# Altium footprint library PCB_USB_Connector.PcbLib: 13 footprints
Each footprint in its own frame and in the unit in brackets; x right, y up, seen from the top. Pads: shape width x height; smd on the part's side, far side on the other; paste and mask are expansions set on the pad; w line width, h text height; cw(c..) or ccw(c..) is an arc to the next point about the centre after c.
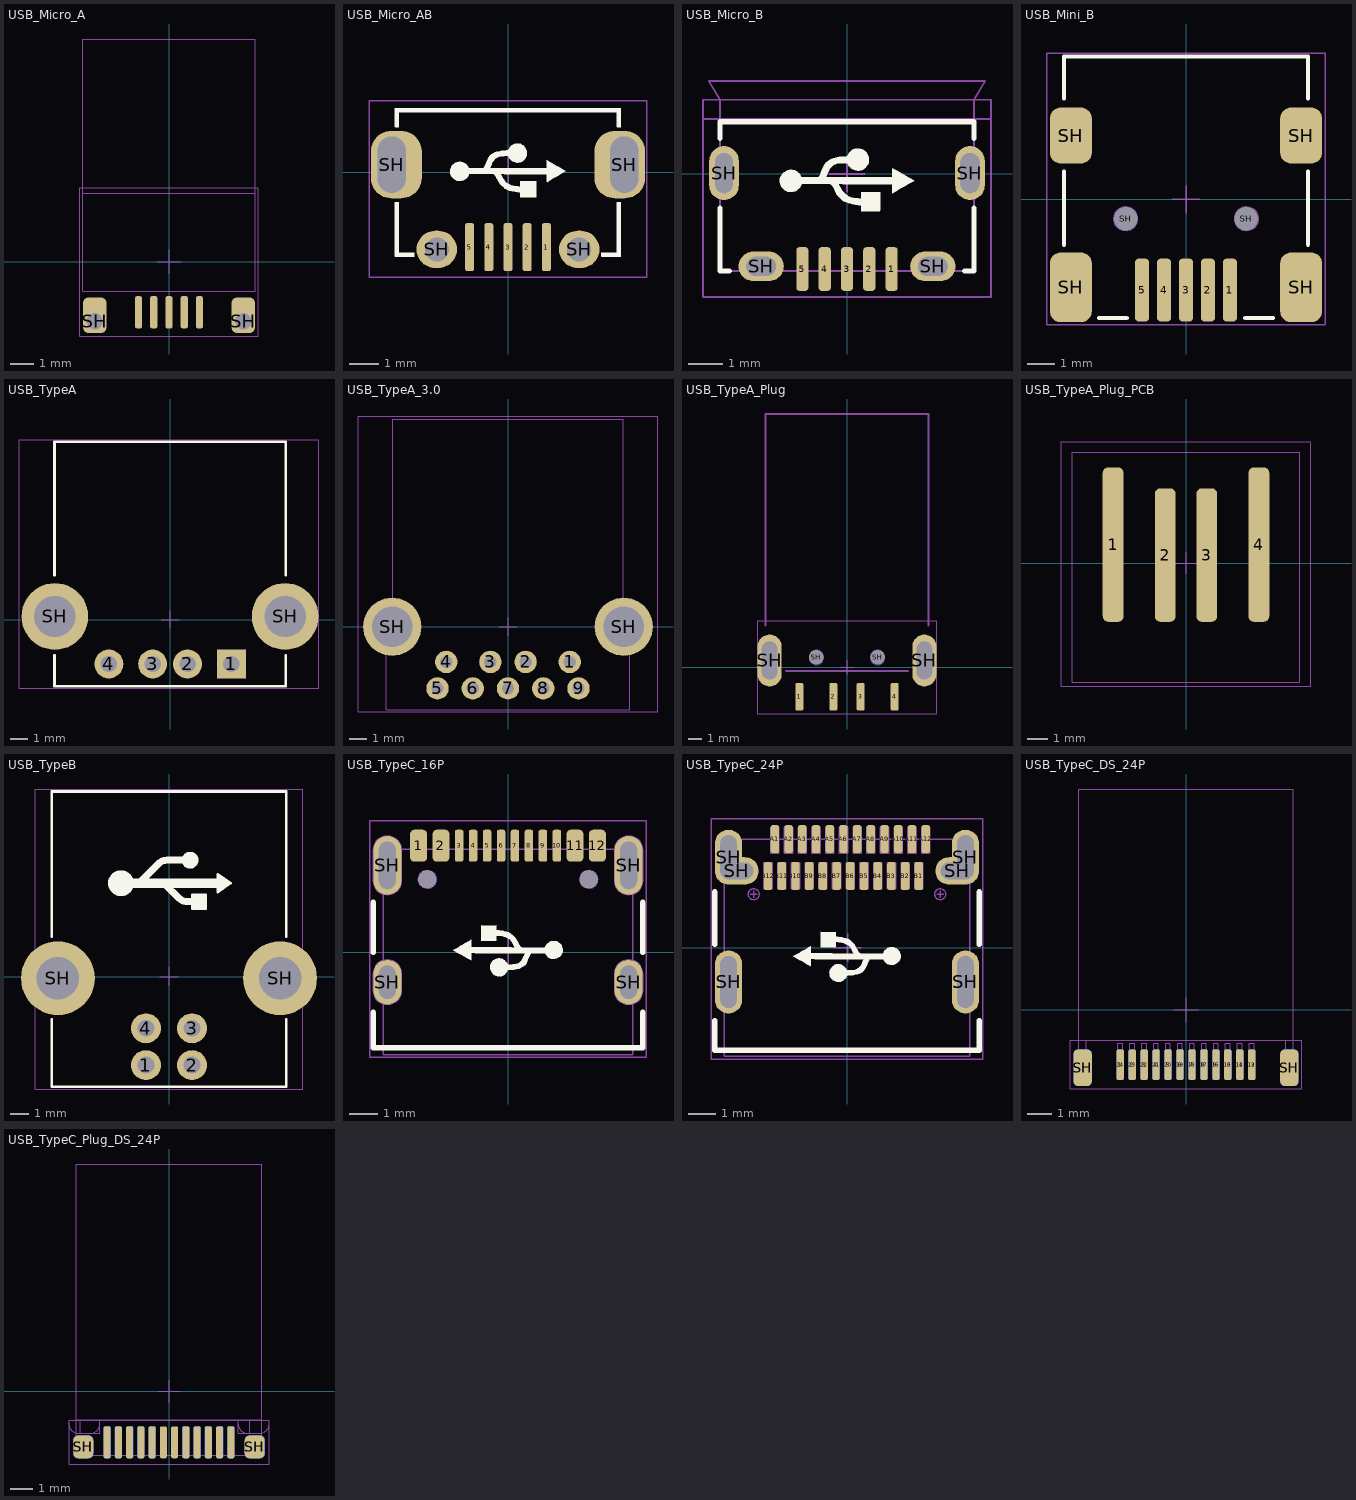
[diagram p0: the footprints below, top view; thin cyan lines are the x and y axes]

## USB_Micro_A [mil]
pads (7):
  rrect50% 12x54 smd: 1(-51.18,-85) 2(-25.59,-85) 3(0,-85) 4(25.59,-85) 5(51.18,-85)
  rrect50% 40x60 hole 28 copper offset 0,10: SH(-125,-100) SH(125,-100)
Mechanical 2:
  circle w2: c-125,-100 r14
  circle w2: c125,-100 r14
  lines w2: -135,-100 -115,-100 ; -125,-110 -125,-90 ; 115,-100 135,-100 ; 125,-110 125,-90
Mechanical 13:
  lines w2: -145,115 145,115 ; -20,0 20,0 ; 0,-20 0,20 ; -145,-50 -145,375 145,375 145,-50 -145,-50
T-Component:
  lines w2: -150,-125 -150,125 150,125 150,-125 -150,-125
  text ".Designator" at -248.5,-21.55 h100
3D body "UJ2-MIBH-4-SMT.stp": height 108.27, standoff -24.02, extent -147.64,-115 147.64,349.57

## USB_Micro_AB [mil]
pads (9):
  rrect50% 12x64 smd: 1(51.18,-100) 2(25.59,-100) 3(0,-100) 4(-25.59,-100) 5(-51.18,-100)
  rrect80% 68x90 hole 37 slot 75 at 90 deg copper offset 6,0 mask+0: SH(-155,10)
  oval 54x50 hole 32 mask+0: SH(-95,-103) SH(95,-103)
  rrect80% 68x90 hole 37 slot 75 at 90 deg copper offset -6,0 mask+0: SH(155,10)
Top Overlay:
  drawing of 24 lines, arcs and shapes, not listed
Mechanical 2:
  circle w2: c-95,-103 r16
  circle w2: c95,-103 r16
  lines w2: -160,10 -150,10 ; -155,0 -155,20 ; -105,-103 -85,-103 ; -95,-113 -95,-93 ; 85,-103 105,-103 ; 95,-113 95,-93 ; 150,10 160,10 ; 155,0 155,20 ; -173.5,-9 ccw(c-155,-9) -136.5,-9 -136.5,29 ccw(c-155,29) -173.5,29 -173.5,-9 ; 136.5,-9 ccw(c155,-9) 173.5,-9 173.5,29 ccw(c155,29) 136.5,29 136.5,-9
Mechanical 13:
  lines w2: -20,0 20,0 ; 0,-20 0,20
T-Component:
  lines w2: -185,-140 185,-140 185,95 -185,95 -185,-140
  text ".Designator" at -248.5,-21.55 h100
3D body "User Library-MicroUSB-B_Molex_105017-0001.STEP": height 108.07, standoff -21.85, extent -161.42,-109.33 161.42,104.45

## USB_Micro_B [mil]
pads (9):
  rrect50% 14x50 smd: 1(51.18,-109) 2(25.59,-109) 3(0,-109) 4(-25.59,-109) 5(-51.18,-109)
  oval 34x62 hole 20 slot 46 at 90 deg: SH(-141,1)
  oval 52x34 hole 22 slot 34 at 0 deg: SH(-98.43,-106) SH(98.43,-106)
  oval 34x62 hole 22 slot 46 at 90 deg: SH(141,1)
Top Overlay:
  drawing of 8 lines, arcs and shapes, not listed
Top Paste:
  lines w0: 137.8,-29.32 137.8,-22.62
Mechanical 2:
  lines w2: -146,1 -136,1 ; -141,-9 -141,11 ; -108.43,-106 -88.43,-106 ; -98.43,-111 -98.43,-101 ; 88.43,-106 108.43,-106 ; 98.43,-111 98.43,-101 ; 136,1 146,1 ; 141,-9 141,11 ; -152,-12 ccw(c-141,-12) -130,-12 -130,14 ccw(c-141,14) -152,14 -152,-12 ; -104.43,-117 cw(c-104.43,-106) -104.43,-95 -92.43,-95 cw(c-92.43,-106) -92.43,-117 -104.43,-117 ; 92.43,-117 cw(c92.43,-106) 92.43,-95 104.43,-95 cw(c104.43,-106) 104.43,-117 92.43,-117 ; 130,-12 ccw(c141,-12) 152,-12 152,14 ccw(c141,14) 130,14 130,-12
Mechanical 13:
  lines w2: -145.34,63 145.67,63 ; -20,0 20,0 ; 0,-20 0,20 ; 145.67,63 145.67,85.65 158.46,106.51 -158.46,106.51 -145.67,85.65 -145.67,63 -145.67,-111.2 145.67,-111.2 145.67,63
T-Component:
  lines w1.97: -165,85 -165,-141 165,-141 165,85
  lines w2: -165,63 165,63 ; -165,85 165,85
  text ".Designator" at -248.5,-21.55 h100
Multi-Layer:
  region: -141,32 -149,32 -150.99,32 -154.66,30.48 -157.48,27.67 -159,23.99 -159,22 -159,-20 -159,-21.99 -157.48,-25.67 -154.66,-28.48 -150.99,-30 -149,-30 -141,-30
  region: 141,-30 149,-30 150.99,-30 154.66,-28.48 157.48,-25.67 159,-21.99 159,-20 159,22 159,23.99 157.48,27.67 154.66,30.48 150.99,32 149,32 141,32
3D body "10118194c.stp": height 108.03, standoff -20.91, extent -158.47,-113 158.47,106.68

## USB_Mini_B [mil]
pads (11):
  rrect50% 20x90 smd: 1(62.99,-130) 2(31.5,-130) 3(0,-130) 4(-31.5,-130) 5(-62.99,-130)
  rrect50% 60x100 smd: SH(-165.2,-126.06) SH(165.19,-126.06)
  rrect50% 60x80 smd: SH(-165.2,91.69) SH(165.19,91.69)
  round 20 hole 34 unplated mask+0: SH(-86.61,-27.64) SH(86.61,-27.64)
Top Overlay:
  lines w6: -175,-65 -175,40 ; -175,145 -175,205 175,205 175,145 ; -125,-170 -85,-170 ; 85,-170 125,-170 ; 175,-65 175,40
Mechanical 2:
  circle w2: c-86.61,-27.64 r17
  circle w2: c86.61,-27.64 r17
  lines w2: -96.61,-27.64 -76.61,-27.64 ; -86.61,-37.64 -86.61,-17.64 ; 76.61,-27.64 96.61,-27.64 ; 86.61,-37.64 86.61,-17.64
Mechanical 13:
  lines w2: -20,0 20,0 ; 0,-20 0,20
T-Component:
  lines w2: -200,-180 200,-180 200,210 -200,210 -200,-180
  text ".Designator" at -248.5,-21.55 h100
3D body "User Library-USB_mini_B.STEP": height 155.51, standoff -39.37, extent -210.63,-157.56 210.63,204.64

## USB_TypeA [mil]
pads (6):
  rect 65x65 hole 37: 1(137.75,-100)
  round 65 hole 37: 2(39.25,-100) 3(-39.25,-100) 4(-137.85,-100)
  round 150 hole 93: SH(-259.25,7) SH(258.75,7)
Top Overlay:
  lines w6: -260,-80 -260,-150 260,-150 260,-80 ; -260,100 -260,400 260,400 260,100
Mechanical 2:
  circle w2: c258.75,7 r46.5
  circle w2: c-259.25,7 r46.5
  circle w2: c-137.85,-100 r18.5
  circle w2: c-39.25,-100 r18.5
  circle w2: c39.25,-100 r18.5
  circle w2: c137.75,-100 r18.5
  lines w2: -269.25,7 -249.25,7 ; -259.25,-3 -259.25,17 ; -147.85,-100 -127.85,-100 ; -137.85,-110 -137.85,-90 ; -49.25,-100 -29.25,-100 ; -39.25,-110 -39.25,-90 ; 29.25,-100 49.25,-100 ; 39.25,-110 39.25,-90 ; 127.75,-100 147.75,-100 ; 137.75,-110 137.75,-90 ; 248.75,7 268.75,7 ; 258.75,-3 258.75,17
Mechanical 13:
  lines w2: -20,0 20,0 ; 0,-20 0,20
T-Component:
  lines w2: -340,-155 335,-155 335,405 -340,405 -340,-155
  text ".Designator" at -248.5,-21.55 h100
3D body "User Library-USB-A-01.step": height 274.23, standoff -164.75, extent -311.27,-145 310.78,394.37

## USB_TypeA_3.0 [mm]
pads (11):
  round 1.27 hole 0.7: 1(3.5,-2) 2(1,-2) 3(-1,-2) 4(-3.5,-2) 5(-4,-3.5) 6(-2,-3.5) 7(0,-3.5) 8(2,-3.5) 9(4,-3.5)
  round 3.302 hole 2.3: SH(-6.57,0) SH(6.57,0)
Mechanical 2:
  circle w0.051: c-4,-3.5 r0.35
  circle w0.051: c-2,-3.5 r0.35
  circle w0.051: c-3.5,-2 r0.35
  circle w0.051: c3.5,-2 r0.35
  circle w0.051: c4,-3.5 r0.35
  circle w0.051: c2,-3.5 r0.35
  circle w0.051: c-6.57,0 r1.15
  circle w0.051: c6.57,0 r1.15
  circle w0.051: c0,-3.5 r0.35
  circle w0.051: c1,-2 r0.35
  circle w0.051: c-1,-2 r0.35
  lines w0.051: -6.824,0 -6.316,0 ; -6.57,-0.254 -6.57,0.254 ; -4.254,-3.5 -3.746,-3.5 ; -4,-3.754 -4,-3.246 ; -3.754,-2 -3.246,-2 ; -3.5,-2.254 -3.5,-1.746 ; -2.254,-3.5 -1.746,-3.5 ; -2,-3.754 -2,-3.246 ; -1.254,-2 -0.746,-2 ; -1,-2.254 -1,-1.746 ; -0.254,-3.5 0.254,-3.5 ; 0,-3.754 0,-3.246 ; 0.746,-2 1.254,-2 ; 1,-2.254 1,-1.746 ; 1.746,-3.5 2.254,-3.5 ; 2,-3.754 2,-3.246 ; 3.246,-2 3.754,-2 ; 3.5,-2.254 3.5,-1.746 ; 3.746,-3.5 4.254,-3.5 ; 4,-3.754 4,-3.246 ; 6.316,0 6.824,0 ; 6.57,-0.254 6.57,0.254
Mechanical 13:
  lines w0.051: -0.508,0 0.508,0 ; 0,-0.508 0,0.508 ; -6.9,-4.72 -6.9,-1.09 -6.55,-1.09 -6.55,11.78 6.55,11.78 6.55,-1.09 6.9,-1.09 6.9,-4.72 -6.9,-4.72
T-Component:
  lines w0.051: -8.509,-4.826 -8.509,11.938 8.509,11.938 8.509,-4.826 -8.509,-4.826
  text ".Designator" at -6.312,-0.547 h2.54
3D body "692121030100.stp": height 8.05, standoff -3.17, extent -7.74,-4.766 7.74,11.784

## USB_TypeA_Plug [mil]
pads (8):
  rrect50% 24x80 smd: 1(-137.8,-85) 2(-39.37,-85) 3(39.37,-85) 4(137.8,-85)
  oval 70x150 hole 45 slot 110 at 90 deg: SH(-224,20) SH(224,20)
  round 32 hole 42 mask+0: SH(-88.58,28.7) SH(88.58,28.7)
Mechanical 2:
  circle w2: c-88.58,28.7 r21
  circle w2: c88.58,28.7 r21
  lines w2: -229,20 -219,20 ; -224,10 -224,30 ; -98.58,28.7 -78.58,28.7 ; -88.58,18.7 -88.58,38.7 ; 78.58,28.7 98.58,28.7 ; 88.58,18.7 88.58,38.7 ; 219,20 229,20 ; 224,10 224,30 ; -246.5,-13.5 ccw(c-224,-13.5) -201.5,-13.5 -201.5,53.5 ccw(c-224,53.5) -246.5,53.5 -246.5,-13.5 ; 201.5,-13.5 ccw(c224,-13.5) 246.5,-13.5 246.5,53.5 ccw(c224,53.5) 201.5,53.5 201.5,-13.5
Mechanical 13:
  lines w2: -20,0 20,0 ; 0,-20 0,20
  lines w6: -236.22,122.01 -236.22,733.43 236.22,733.43 236.22,122.01 ; -176.18,-10.67 176.18,-10.67
T-Component:
  lines w2: -260,-135 260,-135 260,135 -260,135 -260,-135
  text ".Designator" at -248.5,-21.55 h100
3D body "SW3dPS-USB-Male Port.STEP": height 70, standoff -117.5, extent -236.37,-10.67 236.37,711.08

## USB_TypeA_Plug_PCB [mm]
pads (4):
  rrect50% 1x7.41 smd: 1(-3.5,0.897) 4(3.5,0.897)
  rrect50% 1x6.41 smd: 2(-1,0.397) 3(1,0.397)
Mechanical 13:
  lines w0.051: -0.508,0 0.508,0 ; 0,-0.508 0,0.508 ; -6,-5.908 6,-5.908 6,5.842 -6,5.842 -6,-5.908 ; -5.461,-5.715 5.461,-5.715 5.461,5.334 -5.461,5.334 -5.461,-5.715
T-Component:
  text ".Designator" at -6.312,-0.547 h2.54

## USB_TypeB [mil]
pads (6):
  round 64 hole 36 mask+1: 1(-49.21,-189.16) 2(49.21,-189.16) 3(49.21,-110.42) 4(-49.21,-110.42)
  round 157.48 hole 90.55 mask+0: SH(-237.01,-3.72) SH(237.01,-3.72)
Top Overlay:
  circle w20: c45.06,248.21 r7.87
  circle w35: c-102.57,199 r10
  region: 78.53,144.87 49,144.87 49,174.39 78.53,174.39
  region: 131.68,199 104.12,179.31 104.12,218.69
  lines w5: 49,144.87 78.53,144.87 78.53,174.39 49,174.39 49,144.87 ; 104.12,179.31 104.12,218.69 131.68,199 104.12,179.31
  lines w6: -250,-91.14 -250,-235 250,-235 250,-91.14 ; -250,85 -250,395 250,395 250,85
  lines w15: -61.35,201.46 -21.98,240.83 cw(c-4.15,223) -4.15,248.21 45.06,248.21 ; -8.2,196.54 21.33,167.01 ccw(c39.16,184.84) 39.16,159.63 49,159.63
  lines w20: -82.89,199 104.12,199
Mechanical 2:
  circle w2: c-49.21,-110.42 r18
  circle w2: c-49.21,-189.16 r18
  circle w2: c49.21,-189.16 r18
  circle w2: c49.21,-110.42 r18
  circle w2: c237.01,-3.72 r45.28
  circle w2: c-237.01,-3.72 r45.28
  lines w2: -247.01,-3.72 -227.01,-3.72 ; -237.01,-13.72 -237.01,6.28 ; -59.21,-189.16 -39.21,-189.16 ; -59.21,-110.42 -39.21,-110.42 ; -49.21,-199.16 -49.21,-179.16 ; -49.21,-120.42 -49.21,-100.42 ; 39.21,-189.16 59.21,-189.16 ; 39.21,-110.42 59.21,-110.42 ; 49.21,-199.16 49.21,-179.16 ; 49.21,-120.42 49.21,-100.42 ; 227.01,-3.72 247.01,-3.72 ; 237.01,-13.72 237.01,6.28
Mechanical 13:
  lines w2: -20,0 20,0 ; 0,-20 0,20
T-Component:
  lines w2: -285,-240 -285,400 285,400 285,-240 -285,-240
  text ".Designator" at -248.5,-21.55 h100
3D body "c-0292304-01-b-3d.stp": height 452.76, standoff -154.56, extent -283.24,-217.11 283.24,401

## USB_TypeC_16P [mm]
pads (18):
  rrect50% 0.61x1.143 smd: 1(-3.2,3.81) 2(-2.4,3.81) 11(2.4,3.81) 12(3.2,3.81)
  rrect50% 0.305x1.143 smd: 3(-1.75,3.81) 4(-1.25,3.81) 5(-0.75,3.81) 6(-0.25,3.81) 7(0.25,3.81) 8(0.75,3.81) 9(1.25,3.81) 10(1.75,3.81)
  oval 1x2.1 hole 0.6 slot 1.7 at 90 deg: SH(-4.32,3.105) SH(4.32,3.105)
  oval 1x1.6 hole 0.6 slot 1.2 at 90 deg: SH(-4.32,-1.075) SH(4.32,-1.075)
  round 0.635 hole 0.635 unplated mask+0: ""(-2.89,2.605) ""(2.89,2.605)
Top Overlay:
  drawing of 6 lines, arcs and shapes, not listed
Mechanical 2:
  circle w0.051: c2.89,2.605 r0.318
  circle w0.051: c-2.89,2.605 r0.318
  lines w0.051: -4.447,-1.075 -4.193,-1.075 ; -4.447,3.105 -4.193,3.105 ; -4.32,-1.329 -4.32,-0.821 ; -4.32,2.851 -4.32,3.359 ; -3.017,2.605 -2.763,2.605 ; -2.89,2.478 -2.89,2.732 ; 2.763,2.605 3.017,2.605 ; 2.89,2.478 2.89,2.732 ; 4.193,-1.075 4.447,-1.075 ; 4.193,3.105 4.447,3.105 ; 4.32,-1.329 4.32,-0.821 ; 4.32,2.851 4.32,3.359 ; -4.82,-1.375 ccw(c-4.32,-1.375) -3.82,-1.375 -3.82,-0.775 ccw(c-4.32,-0.775) -4.82,-0.775 -4.82,-1.375 ; -4.82,2.555 ccw(c-4.32,2.555) -3.82,2.555 -3.82,3.655 ccw(c-4.32,3.655) -4.82,3.655 -4.82,2.555 ; 3.82,-1.375 ccw(c4.32,-1.375) 4.82,-1.375 4.82,-0.775 ccw(c4.32,-0.775) 3.82,-0.775 3.82,-1.375 ; 3.82,2.555 ccw(c4.32,2.555) 4.82,2.555 4.82,3.655 ccw(c4.32,3.655) 3.82,3.655 3.82,2.555
Mechanical 13:
  circle w0.051: c-2.89,2.605 r0.25
  circle w0.051: c2.89,2.605 r0.25
  region: 4.47,-1.475 4.17,-1.475 4.17,-0.675 4.47,-0.675
  region: 4.47,2.555 4.17,2.555 4.17,3.655 4.47,3.655
  region: -4.17,-1.475 -4.47,-1.475 -4.47,-0.675 -4.17,-0.675
  region: -4.17,2.555 -4.47,2.555 -4.47,3.655 -4.17,3.655
  region: -2.64,2.605 -2.64,2.655 -2.678,2.747 -2.748,2.817 -2.84,2.855 -2.89,2.855 -2.94,2.855 -3.032,2.817 -3.102,2.747 -3.14,2.655 -3.14,2.605 -3.14,2.555 -3.102,2.463 -3.032,2.393 -2.94,2.355 -2.89,2.355 -2.84,2.355 -2.748,2.393 -2.678,2.463 -2.64,2.555
  region: 2.89,2.855 2.94,2.855 3.032,2.817 3.102,2.747 3.14,2.655 3.14,2.605 3.14,2.555 3.102,2.463 3.032,2.393 2.94,2.355 2.89,2.355 2.84,2.355 2.748,2.393 2.678,2.463 2.64,2.555 2.64,2.605 2.64,2.655 2.678,2.747 2.748,2.817 2.84,2.855
  lines w0.051: -0.508,0 0.508,0 ; 0,-0.508 0,0.508 ; -4.47,-3.675 -4.47,3.675 4.47,3.675 4.47,-3.675 -4.47,-3.675 ; -4.47,-1.475 -4.47,-0.675 -4.17,-0.675 -4.17,-1.475 -4.47,-1.475 ; -4.47,2.555 -4.17,2.555 -4.17,3.655 -4.47,3.655 -4.47,2.555 ; -3.425,3.425 -3.225,3.425 -3.225,3.925 -3.425,3.925 -3.425,3.425 ; -3.175,3.425 -3.175,3.925 -2.975,3.925 -2.975,3.425 -3.175,3.425 ; -2.625,3.425 -2.425,3.425 -2.425,3.925 -2.625,3.925 -2.625,3.425 ; -2.375,3.425 -2.375,3.925 -2.175,3.925 -2.175,3.425 -2.375,3.425 ; -1.85,3.425 -1.65,3.425 -1.65,3.925 -1.85,3.925 -1.85,3.425 ; -1.35,3.425 -1.35,3.925 -1.15,3.925 -1.15,3.425 -1.35,3.425 ; -0.85,3.425 -0.65,3.425 -0.65,3.925 -0.85,3.925 -0.85,3.425 ; -0.35,3.425 -0.35,3.925 -0.15,3.925 -0.15,3.425 -0.35,3.425 ; 0.15,3.425 0.35,3.425 0.35,3.925 0.15,3.925 0.15,3.425 ; 0.65,3.425 0.65,3.925 0.85,3.925 0.85,3.425 0.65,3.425 ; 1.15,3.425 1.15,3.925 1.35,3.925 1.35,3.425 1.15,3.425 ; 1.65,3.425 1.85,3.425 1.85,3.925 1.65,3.925 1.65,3.425 ; 2.175,3.425 2.375,3.425 2.375,3.925 2.175,3.925 2.175,3.425 ; 2.425,3.425 2.625,3.425 2.625,3.925 2.425,3.925 2.425,3.425 ; 2.975,3.425 2.975,3.925 3.175,3.925 3.175,3.425 2.975,3.425 ; 3.225,3.425 3.425,3.425 3.425,3.925 3.225,3.925 3.225,3.425 ; 4.17,-1.475 4.47,-1.475 4.47,-0.675 4.17,-0.675 4.17,-1.475 ; 4.17,2.555 4.17,3.655 4.47,3.655 4.47,2.555 4.17,2.555
T-Component:
  lines w0.051: -4.953,-3.759 4.953,-3.759 4.953,4.699 -4.953,4.699 -4.953,-3.759
  text ".Designator" at -6.312,-0.547 h2.54
3D body "USB4105-GF-A--3DModel-STEP-46669.STEP": height 3.31, standoff -0.85, extent -4.79,-3.804 4.79,3.906

## USB_TypeC_24P [mil]
pads (30):
  rrect50% 12x40 smd: A1(-103.54,156) A2(-83.86,156) A3(-64.17,156) A4(-44.49,156) A5(-24.8,156) A6(-5.12,156) A7(14.57,156) A8(34.25,156) A9(53.94,156) A10(73.62,156) A11(93.31,156) A12(112.99,156) B1(103.15,102.87) B2(83.46,102.87) B3(63.78,102.87) B4(44.09,102.87) B5(24.41,102.87) B6(4.72,102.87) B7(-14.96,102.87) B8(-34.65,102.87) B9(-54.33,102.87) B10(-74.02,102.87) B11(-93.7,102.87) B12(-113.39,102.87)
  oval 39.37x90.55 hole 23.62 slot 74.8 at 90 deg: SH(-170.08,-49.21) SH(170.08,-49.21)
  oval 39.37x78.74 hole 23.62 slot 62.99 at 90 deg: SH(-170.08,129.92) SH(170.08,129.92)
  oval 62.99x39.37 hole 23.62 slot 47.24 at 0 deg: SH(-158.27,110.24) SH(158.27,110.24)
Top Overlay:
  drawing of 6 lines, arcs and shapes, not listed
Mechanical 2:
  circle w2: c-133.86,76.77 r7.87
  circle w2: c133.86,76.77 r7.87
  lines w2: -175.28,129.92 -165.28,129.92 ; -175.08,-49.21 -165.08,-49.21 ; -170.28,98.42 -146.65,98.42 ; -170.28,98.43 cw(c-170.28,110.24) -182.09,110.24 -182.09,149.61 cw(c-170.28,149.61) -158.46,149.61 -158.46,122.05 -146.65,122.05 cw(c-146.65,110.24) -146.65,98.43 ; -170.28,139.92 -170.28,114.17 ccw(c-166.34,114.17) -166.34,110.24 -148.46,110.24 ; -170.08,-59.21 -170.08,-39.21 ; -158.46,105.24 -158.46,115.24 ; -138.86,76.77 -128.86,76.77 ; -133.86,71.77 -133.86,81.77 ; 128.86,76.77 138.86,76.77 ; 133.86,71.77 133.86,81.77 ; 146.65,98.42 170.28,98.42 ; 146.65,98.43 cw(c146.65,110.24) 146.65,122.05 158.46,122.05 158.46,149.61 cw(c170.28,149.61) 182.09,149.61 182.09,110.24 cw(c170.28,110.24) 170.28,98.43 ; 148.46,110.24 166.34,110.24 ccw(c166.34,114.17) 170.28,114.17 170.28,139.92 ; 158.46,105.24 158.46,115.24 ; 165.08,-49.21 175.08,-49.21 ; 165.28,129.92 175.28,129.92 ; 170.08,-59.21 170.08,-39.21 ; -181.89,-75 ccw(c-170.08,-75) -158.27,-75 -158.27,-23.82 ccw(c-170.08,-23.82) -181.89,-23.82 -181.89,-75 ; 158.27,-75 ccw(c170.08,-75) 181.89,-75 181.89,-23.82 ccw(c170.08,-23.82) 158.27,-23.82 158.27,-75
Mechanical 13:
  drawing of 132 lines, arcs and shapes, not listed
T-Component:
  lines w2: -195,-160 195,-160 195,185 -195,185 -195,-160
  text ".Designator" at -247.71,-21.55 h100
3D body "uj31-ch-3-smt-tr.stp": height 126.2, standoff -33.64, extent -176.38,-169.3 176.38,198.81

## USB_TypeC_DS_24P [mil]
pads (28):
  rrect50% 12x50 smd: 1(-108.27,-90) 2(-88.58,-90) 3(-68.9,-90) 4(-49.21,-90) 5(-29.53,-90) 6(-9.84,-90) 7(9.84,-90) 8(29.53,-90) 9(49.21,-90) 10(68.9,-90) 11(88.58,-90) 12(108.27,-90)
  rrect50% 12x50 smd far side: 13(108.27,-90) 14(88.58,-90) 15(68.9,-90) 16(49.21,-90) 17(29.53,-90) 18(9.84,-90) 19(-9.84,-90) 20(-29.53,-90) 21(-49.21,-90) 22(-68.9,-90) 23(-88.58,-90) 24(-108.27,-90)
  rrect50% 30x60 smd: SH(-170,-95) SH(170,-95)
  rrect50% 30x60 smd far side: SH(-170,-95) SH(170,-95)
Mechanical 13:
  lines w2: -20,0 20,0 ; 0,-20 0,20 ; -175.98,-50 -175.98,-114.96 -164.17,-114.96 -164.17,-50 -175.98,-50 ; -175.98,-50 -175.98,363.39 175.98,363.39 175.98,-50 ; -175.98,-50 175.98,-50 ; 175.98,-50 164.17,-50 164.17,-114.96 175.98,-114.96 175.98,-50 ; -112.2,-101.3 -112.2,-54.84 -104.33,-54.84 -104.33,-101.3 -112.2,-101.3 ; -92.52,-101.3 -84.65,-101.3 -84.65,-54.84 -92.52,-54.84 -92.52,-101.3 ; -72.83,-101.3 -64.96,-101.3 -64.96,-54.84 -72.83,-54.84 -72.83,-101.3 ; -53.15,-101.3 -53.15,-54.84 -45.28,-54.84 -45.28,-101.3 -53.15,-101.3 ; -33.46,-101.3 -33.46,-54.84 -25.59,-54.84 -25.59,-101.3 -33.46,-101.3 ; -13.78,-101.3 -5.91,-101.3 -5.91,-54.84 -13.78,-54.84 -13.78,-101.3 ; 5.91,-101.3 5.91,-54.84 13.78,-54.84 13.78,-101.3 5.91,-101.3 ; 25.59,-101.3 33.46,-101.3 33.46,-54.84 25.59,-54.84 25.59,-101.3 ; 45.28,-101.3 45.28,-54.84 53.15,-54.84 53.15,-101.3 45.28,-101.3 ; 64.96,-101.3 72.83,-101.3 72.83,-54.84 64.96,-54.84 64.96,-101.3 ; 84.65,-101.3 92.52,-101.3 92.52,-54.84 84.65,-54.84 84.65,-101.3 ; 104.33,-101.3 104.33,-54.84 112.2,-54.84 112.2,-101.3 104.33,-101.3
T-Component:
  lines w2: -190,-130 190,-130 190,-50 -190,-50 -190,-130
  text ".Designator" at -248.5,-111.55 h100

## USB_TypeC_Plug_DS_24P [mil]
pads (26):
  rrect50% 12x56 smd: A1(-108.27,-89) A2(-88.58,-89) A3(-68.9,-89) A4(-49.21,-89) A5(-29.53,-89) A6(-9.84,-89) A7(9.84,-89) A8(29.53,-89) A9(49.21,-89) A10(68.9,-89) A11(88.58,-89) A12(108.27,-89)
  rrect50% 12x56 smd far side: B1(108.27,-89) B2(88.58,-89) B3(68.9,-89) B4(49.21,-89) B5(29.53,-89) B8(-29.53,-89) B9(-49.21,-89) B10(-68.9,-89) B11(-88.58,-89) B12(-108.27,-89)
  rrect50% 35x40 smd: SH(-150,-97) SH(150,-97)
  rrect50% 35x40 smd far side: SH(-150,-97) SH(150,-97)
Mechanical 2:
  lines w2: -175,-50 -175,-57.25 ccw(c-159.25,-57.25) -159.25,-73 -137,-73 ccw(c-137,-57.25) -121.25,-57.25 -121.25,-50 121.25,-50 121.25,-57.25 ccw(c137,-57.25) 137,-73 159.25,-73 ccw(c159.25,-57.25) 175,-57.25 175,-50
Mechanical 13:
  lines w2: -20,0 20,0 ; 0,-20 0,20 ; -162.4,-49.6 -162.4,398 162.4,398 162.4,-49.6 ; -162.4,-49.6 -162.4,-112 162.4,-112 162.4,-49.6 ; -162.4,-49.6 162.4,-49.6 ; -155.31,-73.22 -155.31,-49.6 -121.06,-49.6 -121.06,-73.22 -155.31,-73.22 ; -112.2,-109.3 -104.33,-109.3 -104.33,-62.84 -112.2,-62.84 -112.2,-109.3 ; -92.52,-109.3 -84.65,-109.3 -84.65,-62.84 -92.52,-62.84 -92.52,-109.3 ; -72.83,-109.3 -64.96,-109.3 -64.96,-62.84 -72.83,-62.84 -72.83,-109.3 ; -53.15,-109.3 -45.28,-109.3 -45.28,-62.84 -53.15,-62.84 -53.15,-109.3 ; -33.46,-109.3 -25.59,-109.3 -25.59,-62.84 -33.46,-62.84 -33.46,-109.3 ; -13.78,-109.3 -5.91,-109.3 -5.91,-62.84 -13.78,-62.84 -13.78,-109.3 ; 5.91,-109.3 13.78,-109.3 13.78,-62.84 5.91,-62.84 5.91,-109.3 ; 25.59,-109.3 33.46,-109.3 33.46,-62.84 25.59,-62.84 25.59,-109.3 ; 45.28,-109.3 53.15,-109.3 53.15,-62.84 45.28,-62.84 45.28,-109.3 ; 64.96,-109.3 72.83,-109.3 72.83,-62.84 64.96,-62.84 64.96,-109.3 ; 84.65,-109.3 92.52,-109.3 92.52,-62.84 84.65,-62.84 84.65,-109.3 ; 104.33,-109.3 112.2,-109.3 112.2,-62.84 104.33,-62.84 104.33,-109.3 ; 121.26,-73.22 121.26,-49.6 140.94,-49.6 140.94,-73.22 121.26,-73.22
T-Component:
  lines w2: -175,-127 175,-127 175,-50 -175,-50 -175,-127
  text ".Designator" at -248.5,-111.55 h100
3D body "ausb1-dmn-ptp1.stp": height 66.12, standoff -99.24, extent -162.4,-132 162.4,377.45